# Altium footprint library Liba.PcbLib: 3 footprints
Each footprint in its own frame and in the unit in brackets; x right, y up, seen from the top. Pads: shape width x height; smd on the part's side, far side on the other; paste and mask are expansions set on the pad; w line width, h text height; cw(c..) or ccw(c..) is an arc to the next point about the centre after c.
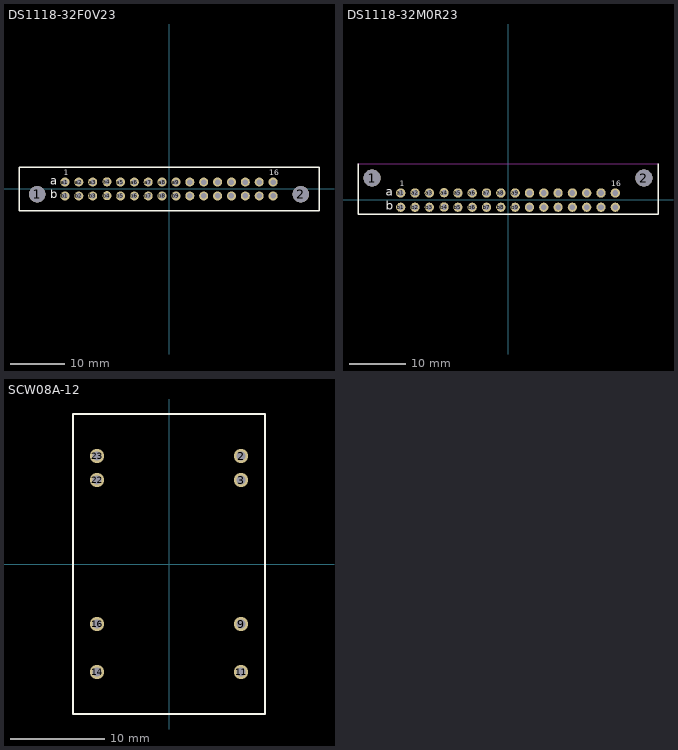
[diagram p0: the footprints below, top view; thin cyan lines are the x and y axes]

## DS1118-32F0V23 [mm]
pads (34):
  round 3 hole 3 unplated: 1(-24.13,-0.99) 2(24.13,-0.99)
  round 1.65 hole 1: a1(-19.05,1.25) a2(-16.51,1.25) a3(-13.97,1.25) a4(-11.348,1.29) a5(-8.89,1.25) a6(-6.35,1.25) a7(-3.81,1.25) a8(-1.27,1.25) a9(1.27,1.25) a10(3.81,1.25) a11(6.35,1.25) a12(8.89,1.25) a13(11.43,1.25) a14(13.97,1.25) a15(16.51,1.25) a16(19.05,1.25) b1(-19.05,-1.29) b2(-16.51,-1.29) b3(-13.97,-1.29) b4(-11.348,-1.25) b5(-8.89,-1.29) b6(-6.35,-1.29) b7(-3.81,-1.29) b8(-1.27,-1.29) b9(1.27,-1.29) b10(3.81,-1.29) b11(6.35,-1.29) b12(8.89,-1.29) b13(11.43,-1.29) b14(13.97,-1.29) b15(16.51,-1.29) b16(19.05,-1.29)
Top Overlay:
  lines w0.254: -27.45,-4.02 -27.45,3.98 27.45,3.98 27.45,-4.02 -27.45,-4.02
  text "a" at -21.746,0.754 h1.52
  text "b" at -21.746,-1.746 h1.52
  text "1" at -19.246,2.454 h1
  text "16" at 18.354,2.454 h1

## DS1118-32M0R23 [mm]
pads (34):
  round 3 hole 3 unplated: 1(-24.13,3.89) 2(24.13,3.89)
  round 1.65 hole 1: a1(-19.05,1.25) a2(-16.51,1.25) a3(-13.97,1.25) a4(-11.348,1.29) a5(-8.89,1.25) a6(-6.35,1.25) a7(-3.81,1.25) a8(-1.27,1.25) a9(1.27,1.25) a10(3.81,1.25) a11(6.35,1.25) a12(8.89,1.25) a13(11.43,1.25) a14(13.97,1.25) a15(16.51,1.25) a16(19.05,1.25) b1(-19.05,-1.29) b2(-16.51,-1.29) b3(-13.97,-1.29) b4(-11.348,-1.25) b5(-8.89,-1.29) b6(-6.35,-1.29) b7(-3.81,-1.29) b8(-1.27,-1.29) b9(1.27,-1.29) b10(3.81,-1.29) b11(6.35,-1.29) b12(8.89,-1.29) b13(11.43,-1.29) b14(13.97,-1.29) b15(16.51,-1.29) b16(19.05,-1.29)
Top Overlay:
  lines w0.254: -26.63,6.4 -26.63,-2.5 26.63,-2.5 26.63,6.4
  text "a" at -21.746,0.754 h1.52
  text "b" at -21.746,-1.746 h1.52
  text "1" at -19.246,2.454 h1
  text "16" at 18.354,2.454 h1
Bottom Solder:
  text "board border" at -8.76,7.254 h1.52
Keep-Out Layer:
  lines w0.025: -26.63,6.4 26.63,6.4

## SCW08A-12 [mil]
pads (8):
  round 60 hole 39.37: 2(300,450) 3(300,350) 9(300,-250) 11(300,-450) 14(-300,-450) 16(-300,-250) 22(-300,350) 23(-300,450)
Top Overlay:
  lines w10: -400,-625 -400,625 400,625 400,-625 -400,-625